# EAGLE library part DS1307N (library resonador)
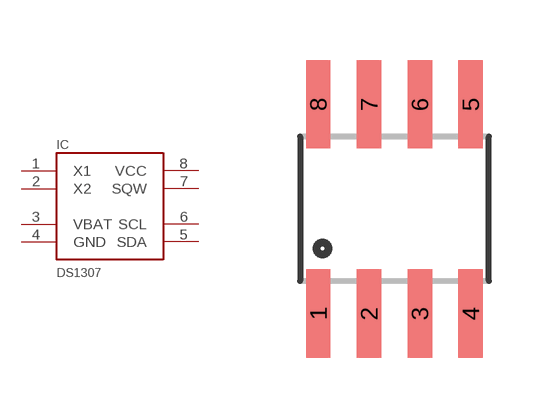
[diagram p2: symbol with the pads of SO8; footprint SO8]

Designator prefix IC

## DS1307N  [SO8]
1  X1
2  X2
3  VBAT
4  GND
5  SDA
6  SCL
7  SQW
8  VCC

## Footprint SO8 (pad centres in mm)
Small Outline Package Fits JEDEC packages (narrow SOIC-8)
smd 0.61 x 2.21: 1 -1.905,-2.616; 2 -0.635,-2.616; 3 0.635,-2.616; 4 1.905,-2.616; 5 1.905,2.616; 6 0.635,2.616; 7 -0.635,2.616; 8 -1.905,2.616